# Altium schematic symbol library Diodes.SchLib: 8 symbols
Pins are listed as number, name and electrical type; pins without a type are passive.

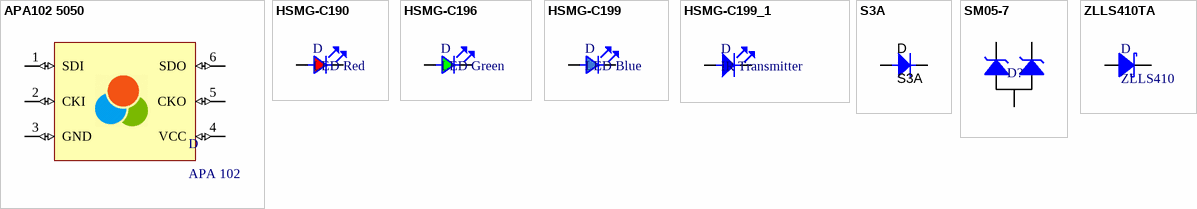
[diagram p0: symbols APA102 5050 to ZLLS410TA]

## APA102 5050
designator D, comment APA 102
LED APA 102 5050 RGB
footprint APA102 5050
pins: 1 SDI (io), 2 CKI (io), 3 GND (io), 4 VCC (io), 5 CKO (io), 6 SDO (io)

## HSMG-C190
designator D, comment LED Red
LED 0603 Red
footprint L0603 RED
pins: 1, 2

## HSMG-C196
designator D, comment LED Green
LED 0603 Green
footprint L0603 GREEN
pins: 1, 2

## HSMG-C199
designator D, comment LED Blue
LED 0603 Blue
footprint L0603 BLUE
pins: 1, 2

## HSMG-C199_1
designator D, comment IR Transmitter
IR Transmitter 0805
footprint IR DIODE 0805
pins: 1, 2

## S3A
designator D
Standard recovery diode 3A, 50V, 1.15V; Forward current: 3A; Vrrm: 50V; Forward voltage: 1.15V; Supplier 1: Farnell; Supplier Part Number 1: 1017803
footprint S3A
pins: 1, 2

## SM05-7
designator D?
TVS Diode 5V reverse standoff, 6.2V minimum breakdown; Supplier 1: Digi-Key; Supplier Part Number 1: SM05-7DICT-ND
footprint SM05-7 (SOT23, 3-Leads, Body 2.85x2.35mm, Pitch 1.05mm, IPC Medium Density)
pins: 1, 2, 3

## ZLLS410TA
designator D, comment ZLLS410
Schottky diode, small signal, 580mV; Supplier Part Number 1: 1843764; Supplier 1: Farnell
footprint ZLLS410
pins: 1, 2